# Altium schematic symbol library Keyboard compoment.SchLib: 2 symbols
Pins are listed as number, name and electrical type; pins without a type are passive.

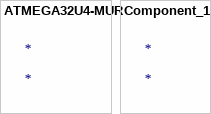
[diagram p0: symbols ATMEGA32U4-MUR to Component_1]

## ATMEGA32U4-MUR
designator *
IC MCU 8BIT 32KB FLASH 44QFN; Manufacturer: Microchip / Atmel; Manufacturer Part Number: ATMEGA32U4-MUR; Core Architecture: AVR; Interface: I2C,SPI,USB,UART,USART; Oscillator Type: External; Data Bus Width: 8b; Number of I/Os: 26; Peripherals: Brown-out Detect/Reset,POR,PWM,WDT; RAM Size: 2.5KB; Max Supply Voltage: 5.5V; Min Supply Voltage: 2.7V; Frequency: 16MHz; Supplier 1: Newark; RoHS: Yes; Category: Microcontrollers; Mount: Surface Mount; Case/Package: QFN; Number of Pins: 44; Min Operating Temperature: -40°C; Max Operating Temperature: 85°C; Packaging: Tape and Reel; Memory Type: FLASH; Memory Size: 32KB; Package Quantity: 4000; Series: AVR® ATmega; Max Frequency: 16MHz; REACH SVHC: No SVHC; Lead Free: Lead Free; ComponentLink1URL: https://datasheet.ciiva.com/6641/atmega16u4-32u4-6641094.pdf?src-supplier=Digi-Key; ComponentLink1Description: https://datasheet.ciiva.com/6641/atmega16u4-32u4-6641094.pdf?src-supplier=Digi-Key; ComponentLink2URL: https://datasheet.ciiva.com/6641/atmega16u4-32u4-6641097.pdf?src-supplier=Digi-Key; ComponentLink2Description: https://datasheet.ciiva.com/6641/atmega16u4-32u4-6641097.pdf?src-supplier=Digi-Key; Supplier Part Number 1: 68T2841

## Component_1
designator *